# Altium schematic symbol library Phoenix Contact.SchLib: 1 symbol
Pins are listed as number, name and electrical type; pins without a type are passive.

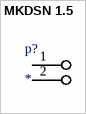
[diagram p0: symbol MKDSN 1.5]

## MKDSN 1.5
designator p?
Wire-to-board connection
footprint Wire-to-board
pins: 1 "Header Pin", 2 "Header Pin"